# Altium footprint library IMU.PcbLib: 5 footprints
Each footprint in its own frame and in the unit in brackets; x right, y up, seen from the top. Pads: shape width x height; smd on the part's side, far side on the other; paste and mask are expansions set on the pad; w line width, h text height; cw(c..) or ccw(c..) is an arc to the next point about the centre after c.
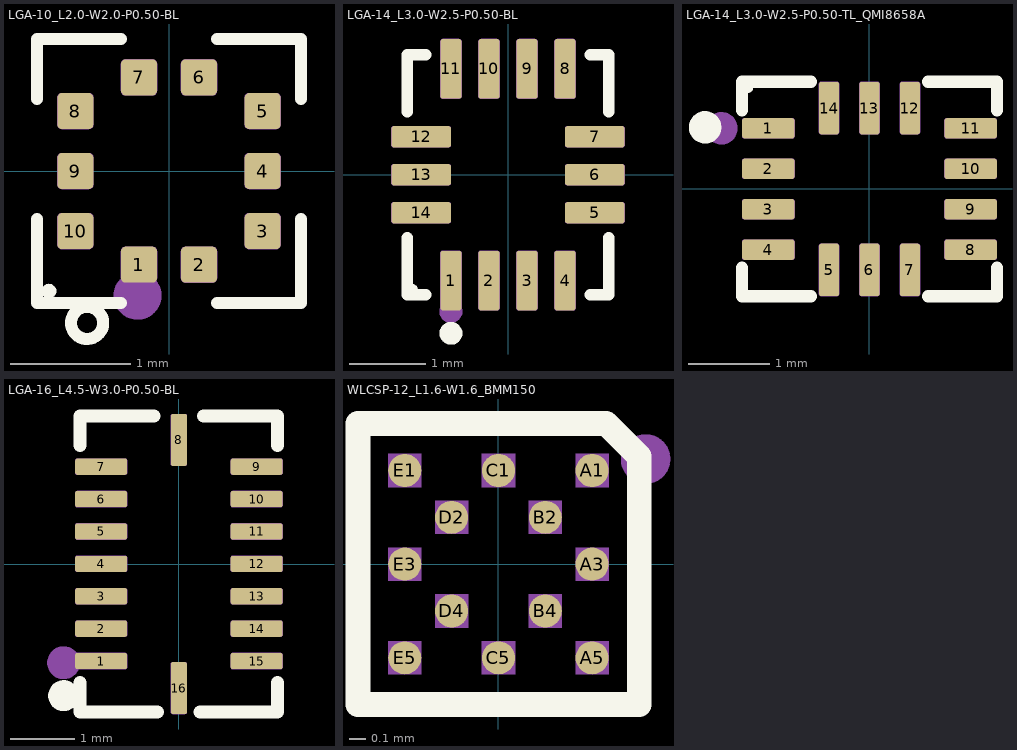
[diagram p0: the footprints below, top view; thin cyan lines are the x and y axes]

## LGA-10_L2.0-W2.0-P0.50-BL [mm] "LGA-10_L2.0-W2.0; LGA-10; LGA 2.0?.0?.75; SMD-10P; LGA-10L; LGA-10_L2.0-W2.0-P0.50-BL"
height -909.212
pads (10):
  rrect25% 0.3x0.3 smd mask+0.05: 1(-0.25,-0.78) 2(0.25,-0.78) 3(0.78,-0.5) 4(0.78,0) 5(0.78,0.5) 6(0.25,0.78) 7(-0.25,0.78) 8(-0.78,0.5) 9(-0.78,0) 10(-0.78,-0.5)
Top Overlay:
  circle w0.1: c-0.682,-1.265 r0.134
  region: -0.94,-1 -0.941,-0.988 -0.945,-0.977 -0.95,-0.967 -0.958,-0.958 -0.967,-0.95 -0.977,-0.945 -0.988,-0.941 -1,-0.94 -1.012,-0.941 -1.023,-0.945 -1.033,-0.95 -1.042,-0.958 -1.05,-0.967 -1.055,-0.977 -1.059,-0.988 -1.06,-1 -1.059,-1.012 -1.055,-1.023 -1.05,-1.033 -1.042,-1.042 -1.033,-1.05 -1.023,-1.055 -1.012,-1.059 -1,-1.06 -0.988,-1.059 -0.977,-1.055 -0.967,-1.05 -0.958,-1.042 -0.95,-1.033 -0.945,-1.023 -0.941,-1.012
  lines w0.1: -1.1,-0.4 -1.1,-1.1 -0.4,-1.1 ; -1.1,0.6 -1.1,1.1 -0.4,1.1 ; 0.4,-1.1 1.1,-1.1 1.1,-0.4 ; 0.4,1.1 1.1,1.1 1.1,0.6
Mechanical 2:
  circle w0.2: c-0.261,-1.038 r0.1
Mechanical 9:
  drawing of 10 lines, arcs and shapes, not listed
3D body "LGA-10_L2.0-W2.0-P0.50-BL.step": height 1, standoff 0, extent -1,-1 1,1

## LGA-14_L3.0-W2.5-P0.50-BL [mm] "LGA-14(2.5x3); LGA-14; LGA-14(2.5x3x0.5mm); LGA-14_L3.0-W2.5-P0.50; BMI160/BMI120; LGA14; LGA-14_2.5X3.0"
height -1909.21
pads (14):
  rrect25% 0.28x0.785 smd mask+0.05: 1(-0.75,-1.392) 2(-0.25,-1.392) 3(0.25,-1.392) 4(0.75,-1.392) 8(0.75,1.392) 9(0.25,1.392) 10(-0.25,1.392) 11(-0.75,1.392)
  rrect25% 0.785x0.28 smd mask+0.05: 5(1.142,-0.5) 6(1.142,0) 7(1.142,0.5) 12(-1.142,0.5) 13(-1.142,0) 14(-1.142,-0.5)
Top Overlay:
  circle w0.15: c-0.75,-2.085 r0.075
  region: -1.19,-1.5 -1.191,-1.488 -1.195,-1.477 -1.2,-1.467 -1.208,-1.458 -1.217,-1.45 -1.227,-1.445 -1.238,-1.441 -1.25,-1.44 -1.262,-1.441 -1.273,-1.445 -1.283,-1.45 -1.292,-1.458 -1.3,-1.467 -1.305,-1.477 -1.309,-1.488 -1.31,-1.5 -1.309,-1.512 -1.305,-1.523 -1.3,-1.533 -1.292,-1.543 -1.283,-1.55 -1.273,-1.556 -1.262,-1.559 -1.25,-1.56 -1.238,-1.559 -1.227,-1.556 -1.217,-1.55 -1.208,-1.543 -1.2,-1.533 -1.195,-1.523 -1.191,-1.512
  lines w0.152: -1.326,-0.831 -1.326,-1.576 -1.08,-1.576 ; -1.326,0.831 -1.326,1.576 -1.08,1.576 ; 1.08,-1.576 1.326,-1.576 1.326,-0.831 ; 1.08,1.576 1.326,1.576 1.326,0.831
Mechanical 2:
  circle w0.15: c-0.75,-1.8 r0.075
Mechanical 9:
  drawing of 14 lines, arcs and shapes, not listed
3D body "LGA-14_L2.5-W3.0-H0.9-P0.50.step": height 0.9, standoff 0, extent -1.25,-1.5 1.25,1.5

## LGA-14_L3.0-W2.5-P0.50-TL_QMI8658A [mm] "SMD-14P; LGA-14pin; LGA-14; LGA-14(2.5x3); LGA14-3*2.5-0.5; LGA-14L; VFLGA-14L(2.5x3); 2.5x3x0.91mm(14-pinLGA)"
height -909.212
pads (14):
  rrect25% 0.65x0.25 smd mask+0.05: 1(-1.25,0.75) 2(-1.25,0.25) 3(-1.25,-0.25) 4(-1.25,-0.75) 8(1.25,-0.75) 9(1.25,-0.25) 10(1.25,0.25) 11(1.25,0.75)
  rrect25% 0.25x0.65 smd mask+0.05: 5(-0.5,-1) 6(0,-1) 7(0.5,-1) 12(0.5,1) 13(0,1) 14(-0.5,1)
Top Overlay:
  circle w0.2: c-2.032,0.762 r0.1
  region: -1.44,1.25 -1.441,1.262 -1.445,1.273 -1.45,1.283 -1.458,1.292 -1.467,1.3 -1.477,1.305 -1.488,1.309 -1.5,1.31 -1.512,1.309 -1.523,1.305 -1.533,1.3 -1.542,1.292 -1.55,1.283 -1.555,1.273 -1.559,1.262 -1.56,1.25 -1.559,1.238 -1.555,1.227 -1.55,1.217 -1.542,1.208 -1.533,1.2 -1.523,1.195 -1.512,1.191 -1.5,1.19 -1.488,1.191 -1.477,1.195 -1.467,1.2 -1.458,1.208 -1.45,1.217 -1.445,1.227 -1.441,1.238
  lines w0.152: -1.576,-0.972 -1.576,-1.326 -0.723,-1.326 ; -1.576,0.972 -1.576,1.326 -0.723,1.326 ; 0.722,-1.326 1.576,-1.326 1.576,-0.972 ; 0.722,1.326 1.576,1.326 1.576,0.972
Mechanical 2:
  circle w0.2: c-1.831,0.75 r0.1
Mechanical 9:
  drawing of 14 lines, arcs and shapes, not listed
3D body "LGA-14_L3.0-W2.5-P0.50-TL_QMI8658A.step": height 1, standoff 0, extent -1.5,-1.25 1.5,1.25

## LGA-16_L4.5-W3.0-P0.50-BL [mm] "LGA-16(3x4.5); LGA-16"
height -909.212
pads (16):
  rrect25% 0.8x0.25 smd mask+0.05: 1(-1.2,-1.498) 2(-1.2,-0.998) 3(-1.2,-0.498) 4(-1.2,0.002) 5(-1.2,0.502) 6(-1.2,1.002) 7(-1.2,1.502) 9(1.2,1.502) 10(1.2,1.002) 11(1.2,0.502) 12(1.2,0.002) 13(1.2,-0.498) 14(1.2,-0.998) 15(1.2,-1.498)
  rrect25% 0.25x0.8 smd mask+0.05: 8(0,1.915) 16(0,-1.915)
Top Overlay:
  circle w0.254: c-1.778,-2.032 r0.112
  region: -1.44,-2.25 -1.441,-2.238 -1.445,-2.227 -1.45,-2.217 -1.458,-2.208 -1.467,-2.2 -1.477,-2.195 -1.488,-2.191 -1.5,-2.19 -1.512,-2.191 -1.523,-2.195 -1.533,-2.2 -1.543,-2.208 -1.55,-2.217 -1.556,-2.227 -1.559,-2.238 -1.56,-2.25 -1.559,-2.262 -1.556,-2.273 -1.55,-2.283 -1.543,-2.292 -1.533,-2.3 -1.523,-2.305 -1.512,-2.309 -1.5,-2.31 -1.488,-2.309 -1.477,-2.305 -1.467,-2.3 -1.458,-2.292 -1.45,-2.283 -1.445,-2.273 -1.441,-2.262
  lines w0.2: -1.524,-1.827 -1.524,-2.286 -0.329,-2.286 ; -1.524,1.831 -1.524,2.159 -1.524,2.286 -0.381,2.286 ; 0.329,-2.286 1.524,-2.286 1.524,-1.827 ; 0.381,2.286 1.524,2.286 1.524,1.831
Mechanical 2:
  circle w0.254: c-1.778,-1.524 r0.127
Mechanical 9:
  drawing of 16 lines, arcs and shapes, not listed
3D body "LGA-16_L4.5-W3.0-H1.0-P0.50-BL.step": height 1, standoff 0, extent -1.5,-2.25 1.5,2.25

## WLCSP-12_L1.6-W1.6_BMM150 [mm] "WLCSP-12"
height -4909.229
pads (12):
  round 0.2 smd mask+0.05: A1(0.566,0.566) A3(0.566,0) A5(0.566,-0.566) B2(0.283,0.283) B4(0.283,-0.283) C1(0,0.566) C5(0,-0.566) D2(-0.283,0.283) D4(-0.283,-0.283) E1(-0.566,0.566) E3(-0.566,0) E5(-0.566,-0.566)
Top Overlay:
  region: 0.81,0.78 0.809,0.786 0.808,0.791 0.805,0.797 0.801,0.801 0.797,0.805 0.791,0.808 0.786,0.809 0.78,0.81 0.774,0.809 0.769,0.808 0.763,0.805 0.759,0.801 0.755,0.797 0.752,0.791 0.751,0.786 0.75,0.78 0.751,0.774 0.752,0.769 0.755,0.763 0.759,0.759 0.763,0.755 0.769,0.752 0.774,0.751 0.78,0.75 0.786,0.751 0.791,0.752 0.797,0.755 0.801,0.759 0.805,0.763 0.808,0.769 0.809,0.774
  lines w0.15: 0.851,0.05 0.851,0.65 0.65,0.851 -0.849,0.851 -0.849,-0.849 0.851,-0.849 0.851,0.101
Mechanical 2:
  circle w0.15: c0.889,0.635 r0.075
Mechanical 9:
  region: 0.466,0.466 0.666,0.466 0.666,0.666 0.466,0.666
  region: -0.1,0.466 0.1,0.466 0.1,0.666 -0.1,0.666
  region: -0.666,0.466 -0.466,0.466 -0.466,0.666 -0.666,0.666
  region: 0.183,0.183 0.383,0.183 0.383,0.383 0.183,0.383
  region: -0.383,0.183 -0.183,0.183 -0.183,0.383 -0.383,0.383
  region: 0.466,-0.1 0.666,-0.1 0.666,0.1 0.466,0.1
  region: -0.666,-0.1 -0.466,-0.1 -0.466,0.1 -0.666,0.1
  region: 0.183,-0.383 0.383,-0.383 0.383,-0.183 0.183,-0.183
  region: -0.383,-0.383 -0.183,-0.383 -0.183,-0.183 -0.383,-0.183
  region: 0.466,-0.666 0.666,-0.666 0.666,-0.466 0.466,-0.466
  region: -0.1,-0.666 0.1,-0.666 0.1,-0.466 -0.1,-0.466
  region: -0.666,-0.666 -0.466,-0.666 -0.466,-0.466 -0.666,-0.466
3D body "WLCSP-12_L1.6-W1.6-H0.6_BMM150.step": height 0.6, standoff 0, extent -0.78,-0.78 0.78,0.78